# EAGLE library part CON-8W_RA (library EW_Connectors)
8 pin IDC r/a box header as per RS823-6462, so it is.
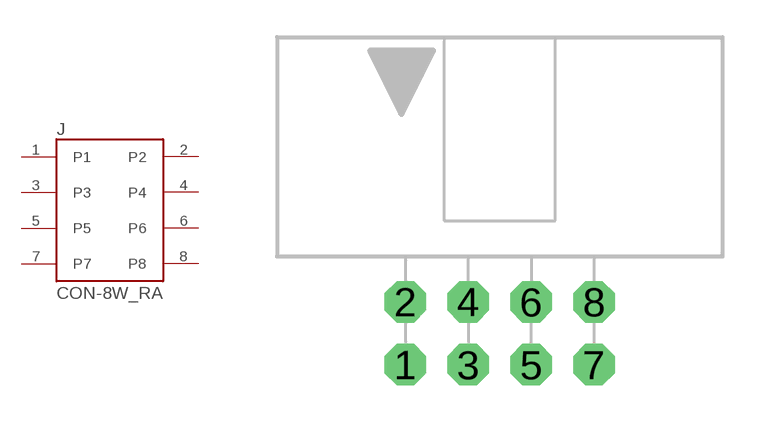
[diagram p12: symbol with the pads of CON_8W_RA; footprint CON_8W_RA]

Designator prefix J

## CON-8W_RA  [CON_8W_RA]
1  P1  pas
2  P2  pas
3  P3  pas
4  P4  pas
5  P5  pas
6  P6  pas
7  P7  pas
8  P8  pas

## Footprint CON_8W_RA (pad centres in mm)
drill 1 pad 1.676 octagon: 1 -3.81,0; 2 -3.81,2.54; 3 -1.27,0; 4 -1.27,2.54; 5 1.27,0; 6 1.27,2.54; 7 3.81,0; 8 3.81,2.54